# Altium schematic symbol library TestPoint.SchLib: 3 symbols
Pins are listed as number, name and electrical type; pins without a type are passive.

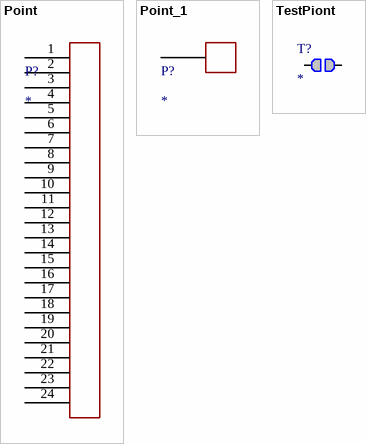
[diagram p0: symbols Point to TestPiont]

## Point
designator P?
footprint Point
pins: 1, 2, 3, 4, 5, 6, 7, 8, 9, 10, 11, 12, 13, 14, 15, 16, 17, 18, 19, 20, 21, 22, 23, 24

## Point_1
designator P?
footprint POINT_1
pins: 1

## TestPiont
designator T?
footprint TestPoint
pins: 1, 2